# Altium footprint library Footprints.PcbLib: 2 footprints
Each footprint in its own frame and in the unit in brackets; x right, y up, seen from the top. Pads: shape width x height; smd on the part's side, far side on the other; paste and mask are expansions set on the pad; w line width, h text height; cw(c..) or ccw(c..) is an arc to the next point about the centre after c.
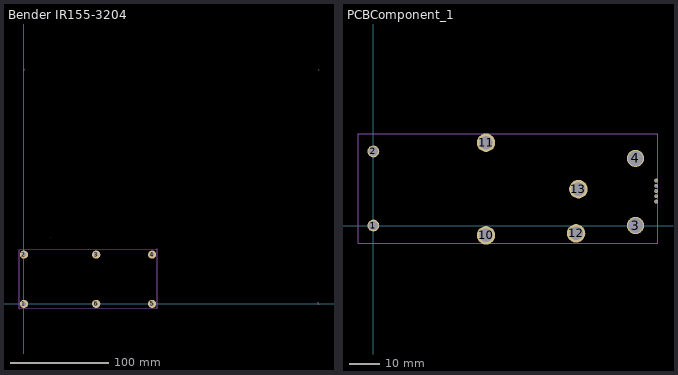
[diagram p0: the footprints below, top view; thin cyan lines are the x and y axes]

## Bender IR155-3204 [mm]
pads (6):
  round 8.4 hole 4.2: 1(0.047,-0.207) 2(0.047,49.793) 3(73.297,49.793) 4(130.047,49.793) 5(130.047,-0.207) 6(73.297,-0.207)
Mechanical 1:
  lines w0.254: -4.953,54.793 135.045,55.518 ; -4.847,54.793 -4.953,-5.207 135.046,-4.611 ; 0,236.982 0.889,237.871 ; 26.543,66.802 26.599,66.858 ; 135.048,-4.611 135.174,55.518 ; 297.561,1.27 299.339,-0.508 ; 298.45,237.871 299.339,236.982
3D body "Bender IR155-3204.step": height 16, standoff -0.55, extent -4.968,-5.334 136.032,54.666

## PCBComponent_1 [mil]
pads (13):
  round 150 hole 120 unplated: 1(0,0) 2(0,947.17)
  round 220 hole 190: 3(3350.08,0) 4(3350.08,858.66)
  round 47.99 hole 40: 5(3613.43,307.28) 9(3613.43,575)
  oval 47.99x45.98 hole 40: 6(3613.43,374.21) 7(3613.43,441.14) 8(3613.43,508.07)
  round 236.02 hole 172.01 unplated: 10(1439.13,-125) 11(1439.13,1059.21) 12(2590,-100) 13(2620,465)
Mechanical 1:
  lines w10: -196.85,-226.22 3635.43,-226.22 3635.43,1173.39 -196.85,1173.39 -196.85,-226.22
3D body "Vicor DCM3714BD2H26F0C05.step": height 381.85, standoff -174.15, extent -180,-265 3650,1135
3D body: height 1181.1, standoff -1181.1, extent 2305,1015 2305,1015
3D body: height 1181.1, standoff -1181.1, extent 2250,905 2250,905